# EAGLE library part STM32L_DISCOVERY (library CEDTv79)
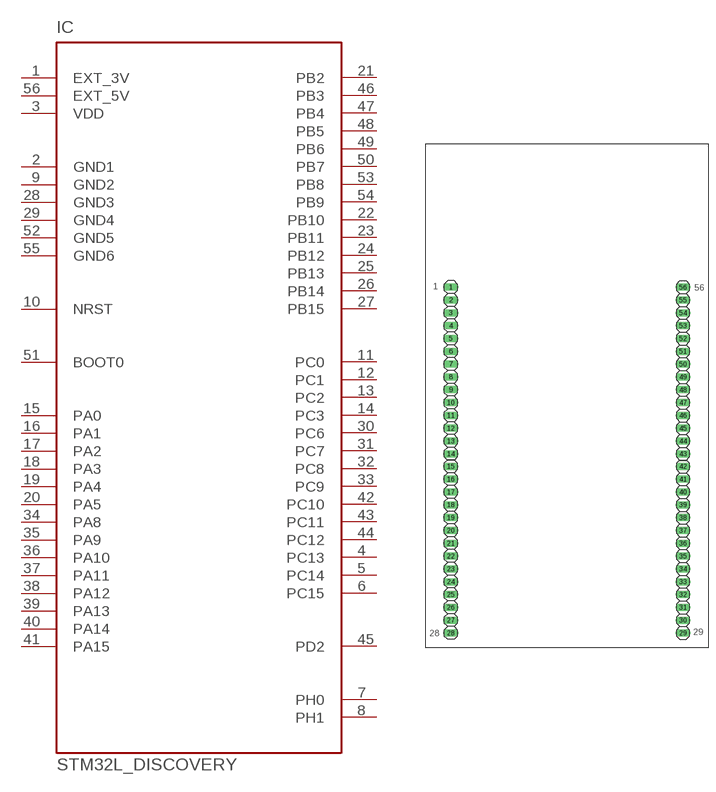
[diagram p57: symbol with the pads of STM32L_DISCOVERY; footprint STM32L_DISCOVERY]

Designator prefix IC

## STM32L_DISCOVERY  [STM32L_DISCOVERY]
1  EXT_3V
2  GND1
3  VDD
4  PC13
5  PC14
6  PC15
7  PH0
8  PH1
9  GND2
10  NRST
11  PC0
12  PC1
13  PC2
14  PC3
15  PA0
16  PA1
17  PA2
18  PA3
19  PA4
20  PA5
21  PB2
22  PB10
23  PB11
24  PB12
25  PB13
26  PB14
27  PB15
28  GND3
29  GND4
30  PC6
31  PC7
32  PC8
33  PC9
34  PA8
35  PA9
36  PA10
37  PA11
38  PA12
39  PA13
40  PA14
41  PA15
42  PC10
43  PC11
44  PC12
45  PD2
46  PB3
47  PB4
48  PB5
49  PB6
50  PB7
51  BOOT0
52  GND5
53  PB8
54  PB9
55  GND6
56  EXT_5V

## Footprint STM32L_DISCOVERY (pad centres in mm)
drill 1.016 long: 1 5,71.51; 2 5,68.97; 3 5,66.43; 4 5,63.89; 5 5,61.35; 6 5,58.81; 7 5,56.27; 8 5,53.73; 9 5,51.19; 10 5,48.65; 11 5,46.11; 12 5,43.57; 13 5,41.03; 14 5,38.49; 15 5,36.01; 16 5,33.47; 17 5,30.93; 18 5,28.39; 19 5,25.85; 20 5,23.31; 21 5,20.77; 22 5,18.23; 23 5,15.69; 24 5,13.15; 25 5,10.61; 26 5,8.07; 27 5,5.53; 28 5,2.99; 29 51,2.99; 30 51,5.53; 31 51,8.07; 32 51,10.61; 33 51,13.15; 34 51,15.69; 35 51,18.23; 36 51,20.77; 37 51,23.31; 38 51,25.85; 39 51,28.39; 40 51,30.93; 41 51,33.47; 42 51,36.01; 43 51,38.49; 44 51,41.03; 45 51,43.57; 46 51,46.11; 47 51,48.65; 48 51,51.19; 49 51,53.73; 50 51,56.27; 51 51,58.81; 52 51,61.35; 53 51,63.89; 54 51,66.43; 55 51,68.97; 56 51,71.51